# Altium schematic symbol library btn_r200.SchLib: 3 symbols
Pins are listed as number, name and electrical type; pins without a type are passive.

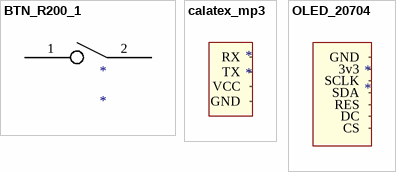
[diagram p0: symbols BTN_R200_1 to OLED_20704]

## BTN_R200_1
designator *
footprint BTN_R200_1
pins: 1, 2

## calatex_mp3
designator *
footprint calatex mp3
pins: 1 RX, 2 TX, 3 VCC, 4 GND

## OLED_20704
designator *
footprint OLED_20704
pins: 1 GND, 2 3v3, 3 SCLK, 4 SDA, 5 RES, 6 DC, 7 CS